# Altium footprint library TC4.PcbLib: 1 footprints
Each footprint in its own frame and in the unit in brackets; x right, y up, seen from the top. Pads: shape width x height; smd on the part's side, far side on the other; paste and mask are expansions set on the pad; w line width, h text height; cw(c..) or ccw(c..) is an arc to the next point about the centre after c.
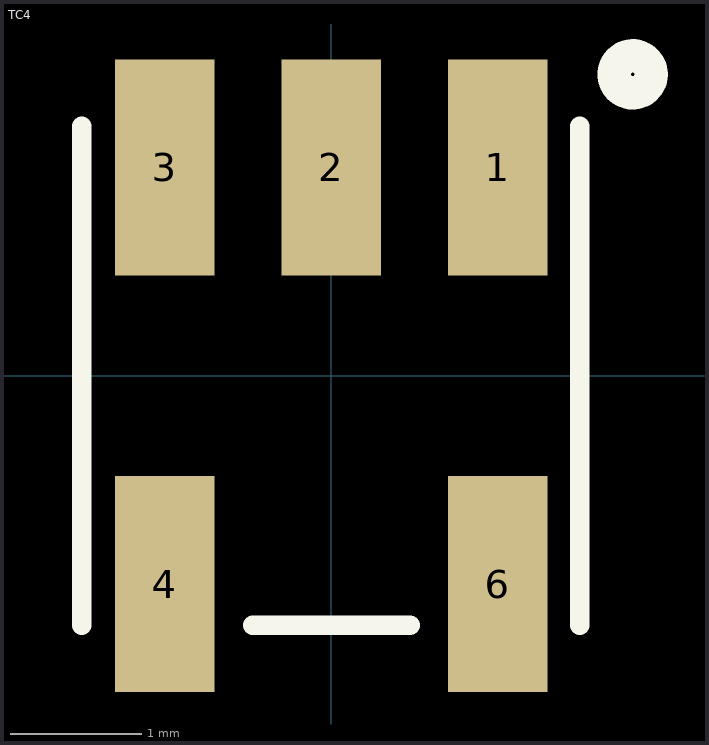
[diagram p0: the footprint, top view; thin cyan lines are the x and y axes]

## TC4 [mm] "TC4 Series Transformer"
pads (5):
  rect 0.76x1.65 smd: 1(1.27,1.59) 2(0,1.59) 3(-1.27,1.59) 4(-1.27,-1.59) 6(1.27,-1.59)
Top Overlay:
  circle w0.254: c2.3,2.3 r0.141
  lines w0.15: -1.905,-1.905 -1.905,1.905 ; -0.6,-1.905 0.6,-1.905 ; 1.895,-1.905 1.895,1.905
Mechanical 16:
  text "'.Designator'" at -1.5,-0.134 h2
3D body "TC4.step": height 4.16, standoff 0, extent -1.905,-2.339 1.905,2.339